# Altium schematic symbol library New_Library.SchLib: 1 symbol
Pins are listed as number, name and electrical type; pins without a type are passive.

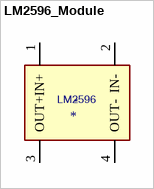
[diagram p0: symbol LM2596_Module]

## LM2596_Module
designator *  Reference: LM2596
pins: 1 IN+, 2 IN-, 3 OUT+, 4 OUT-